# EAGLE library part SOFTTOUCH1/2 (library Mechanical)
Agilent Full size Soft Touch Retainer (27 pads)
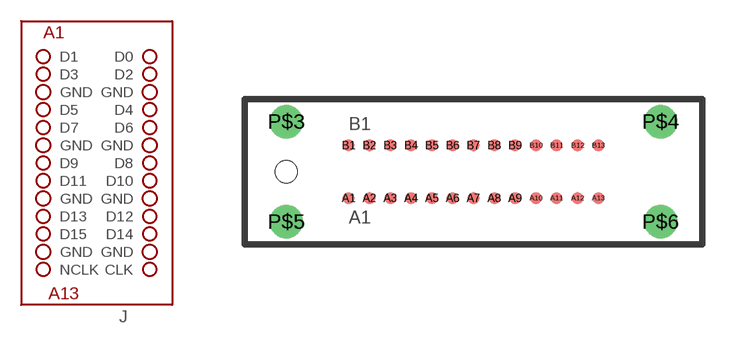
[diagram p47: symbol with the pads of SOFT-27; footprint SOFT-27]

Designator prefix J

## SOFTTOUCH1/2  [SOFT-27]
A1  D1  pas
A2  D3  pas
A3  GND  pwr
A4  D5  pas
A5  D7  pas
A6  GND  pwr
A7  D9  pas
A8  D11  pas
A9  GND  pwr
A10  D13  pas
A11  D15  pas
A12  GND  pwr
A13  NCLK  pas
B1  D0  pas
B2  D2  pas
B3  GND  pwr
B4  D4  pas
B5  D6  pas
B6  GND  pwr
B7  D8  pas
B8  D10  pas
B9  GND  pwr
B10  D12  pas
B11  D14  pas
B12  GND  pwr
B13  CLK  pas

## Footprint SOFT-27 (pad centres in mm)
27 pin Agilent Half Size Soft Touch connector
smd 0.58 x 0.58: A1 -6,-1.27; A2 -5,-1.27; A3 -4,-1.27; A4 -3,-1.27; A5 -2,-1.27; A6 -1,-1.27; A7 0,-1.27; A8 1,-1.27; A9 2,-1.27; A10 3,-1.27; A11 4,-1.27; A12 5,-1.27; A13 6,-1.27; B1 -6,1.27; B2 -5,1.27; B3 -4,1.27; B4 -3,1.27; B5 -2,1.27; B6 -1,1.27; B7 0,1.27; B8 1,1.27; B9 2,1.27; B10 3,1.27; B11 4,1.27; B12 5,1.27; B13 6,1.27
drill 1.067: P$3 -9,2.41; P$4 9,2.41; P$5 -9,-2.41; P$6 9,-2.41
hole 1.067 at -9,0